# Altium footprint library alexsb.PCBLIB: 444 footprints (part 5 of 28)
Each footprint in its own frame and in the unit in brackets; x right, y up, seen from the top. Pads: shape width x height; smd on the part's side, far side on the other; paste and mask are expansions set on the pad; w line width, h text height; cw(c..) or ccw(c..) is an arc to the next point about the centre after c.
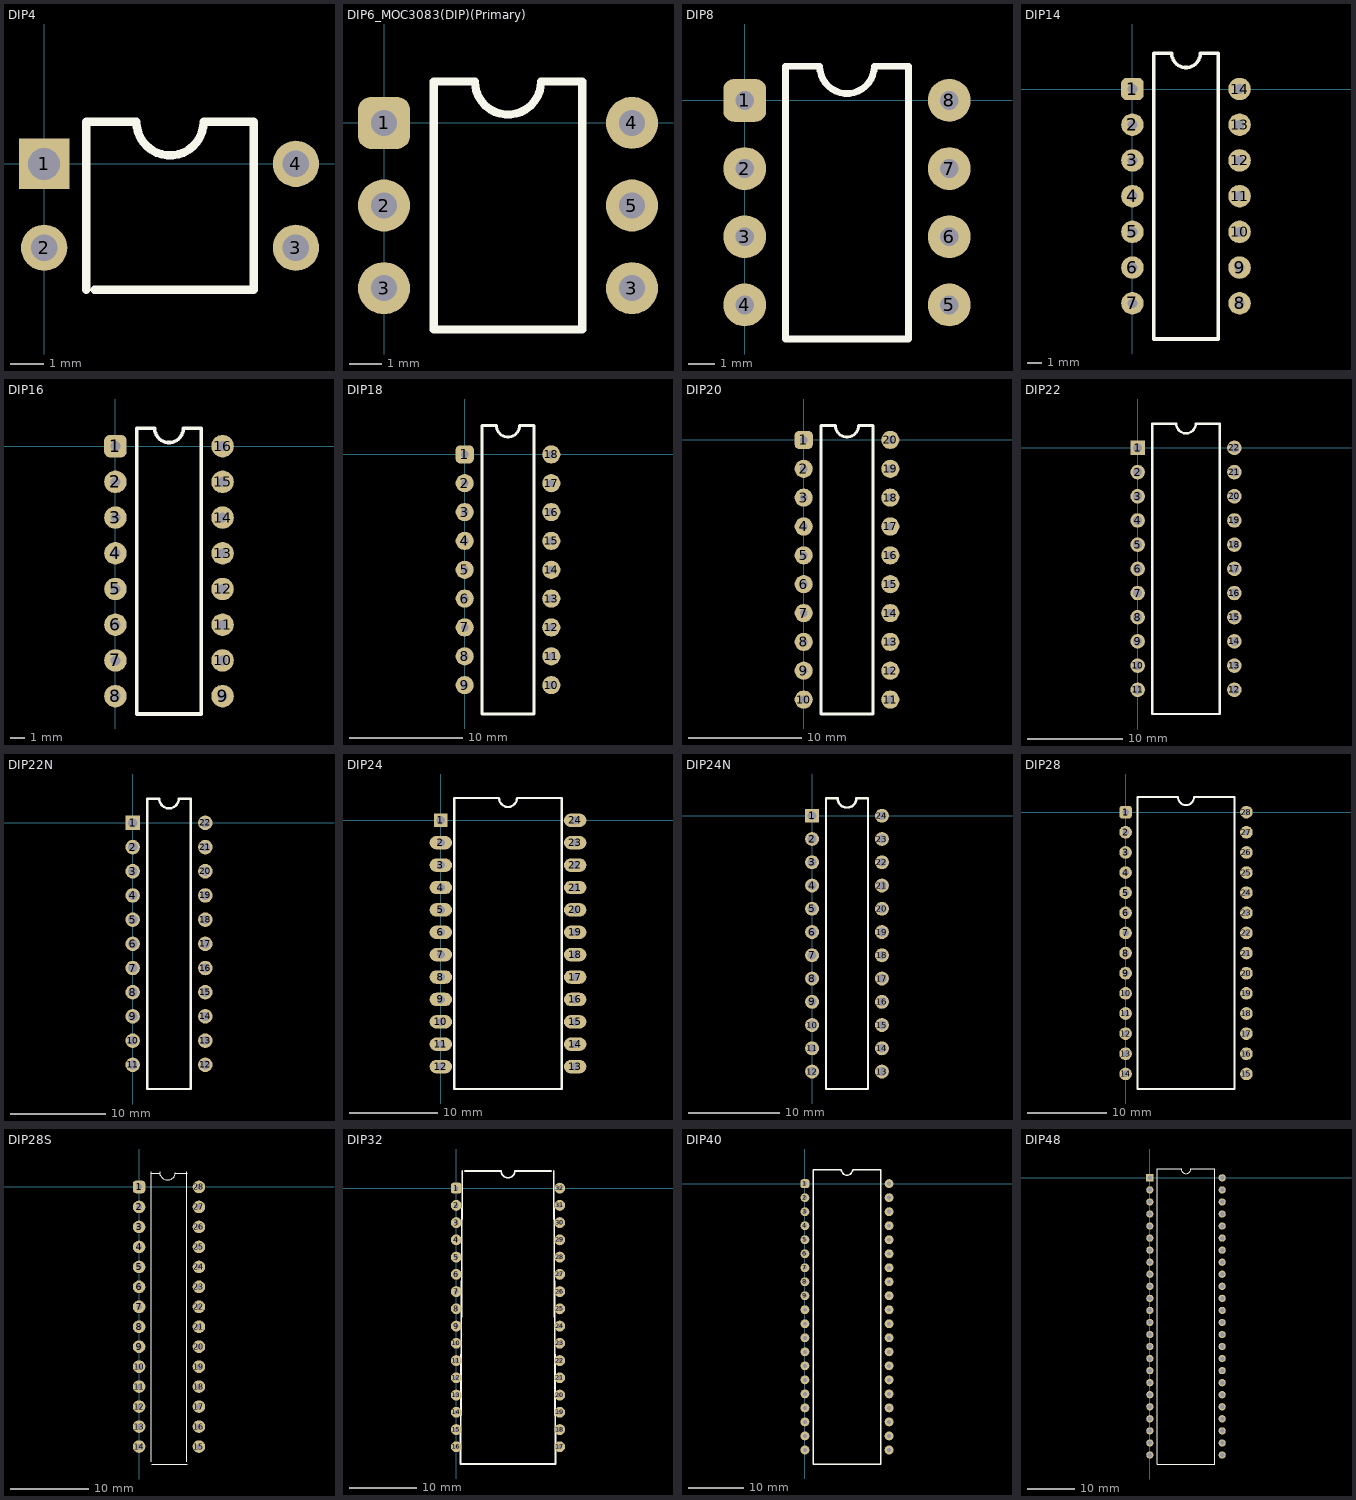
[diagram p4: the footprints below, top view; thin cyan lines are the x and y axes]

## DIP4 [mm]
pads (4):
  rect 1.524x1.524 hole 0.965: 1(0,0)
  round 1.4 hole 0.8: 2(0,-2.54) 3(7.62,-2.54) 4(7.62,0)
Top Overlay:
  lines w0.254: 1.27,-3.81 1.27,1.27 2.794,1.27 ccw(c3.81,1.27) 4.826,1.27 6.35,1.27 6.35,-3.81 1.524,-3.81

## DIP6_MOC3083(DIP)(Primary) [mm]
pads (6):
  rrect50% 1.6x1.6 hole 0.8: 1(0,0)
  round 1.6 hole 0.8: 2(0,-2.54) 3(0,-5.08) 3(7.62,-5.08) 4(7.62,0) 5(7.62,-2.54)
Top Overlay:
  lines w0.254: 1.524,-6.35 6.096,-6.35 6.096,1.27 4.826,1.27 cw(c3.81,1.27) 2.794,1.27 1.524,1.27 1.524,-6.35

## DIP8 [mm]
pads (8):
  rrect50% 1.6x1.6 hole 0.7: 1(0,0)
  round 1.6 hole 0.7: 2(0,-2.54) 3(0,-5.08) 4(0,-7.62) 5(7.62,-7.62) 6(7.62,-5.08) 7(7.62,-2.54) 8(7.62,0)
Top Overlay:
  lines w0.254: 1.524,-8.89 1.524,1.27 2.794,1.27 ccw(c3.81,1.27) 4.826,1.27 6.096,1.27 6.096,-8.89 1.524,-8.89

## DIP14 [mm]
pads (14):
  rrect50% 1.6x1.6 hole 0.7: 1(0,0)
  round 1.6 hole 0.7: 2(0,-2.54) 3(0,-5.08) 4(0,-7.62) 5(0,-10.16) 6(0,-12.7) 7(0,-15.24) 8(7.62,-15.24) 9(7.62,-12.7) 10(7.62,-10.16) 11(7.62,-7.62) 12(7.62,-5.08) 13(7.62,-2.54) 14(7.62,0)
Top Overlay:
  lines w0.254: 1.524,-17.78 1.524,2.54 2.794,2.54 ccw(c3.81,2.54) 4.826,2.54 6.096,2.54 6.096,-17.78 1.524,-17.78

## DIP16 [mm]
pads (16):
  rrect50% 1.6x1.6 hole 0.7: 1(0,0)
  round 1.6 hole 0.7: 2(0,-2.54) 3(0,-5.08) 4(0,-7.62) 5(0,-10.16) 6(0,-12.7) 7(0,-15.24) 8(0,-17.78) 9(7.62,-17.78) 10(7.62,-15.24) 11(7.62,-12.7) 12(7.62,-10.16) 13(7.62,-7.62) 14(7.62,-5.08) 15(7.62,-2.54) 16(7.62,0)
Top Overlay:
  lines w0.254: 1.524,-19.05 1.524,1.27 2.794,1.27 ccw(c3.81,1.27) 4.826,1.27 6.096,1.27 6.096,-19.05 1.524,-19.05

## DIP18 [mm]
pads (18):
  rrect50% 1.6x1.6 hole 0.7: 1(0,0)
  round 1.6 hole 0.7: 2(0,-2.54) 3(0,-5.08) 4(0,-7.62) 5(0,-10.16) 6(0,-12.7) 7(0,-15.24) 8(0,-17.78) 9(0,-20.32) 10(7.62,-20.32) 11(7.62,-17.78) 12(7.62,-15.24) 13(7.62,-12.7) 14(7.62,-10.16) 15(7.62,-7.62) 16(7.62,-5.08) 17(7.62,-2.54) 18(7.62,0)
Top Overlay:
  lines w0.254: 1.524,-22.86 1.524,2.54 2.794,2.54 ccw(c3.81,2.54) 4.826,2.54 6.096,2.54 6.096,-22.86 1.524,-22.86

## DIP20 [mm]
pads (20):
  rrect50% 1.6x1.6 hole 0.7: 1(0,0)
  round 1.6 hole 0.7: 2(0,-2.54) 3(0,-5.08) 4(0,-7.62) 5(0,-10.16) 6(0,-12.7) 7(0,-15.24) 8(0,-17.78) 9(0,-20.32) 10(0,-22.86) 11(7.62,-22.86) 12(7.62,-20.32) 13(7.62,-17.78) 14(7.62,-15.24) 15(7.62,-12.7) 16(7.62,-10.16) 17(7.62,-7.62) 18(7.62,-5.08) 19(7.62,-2.54) 20(7.62,0)
Top Overlay:
  lines w0.254: 1.524,-24.13 1.524,1.27 2.794,1.27 ccw(c3.81,1.27) 4.826,1.27 6.096,1.27 6.096,-24.13 1.524,-24.13

## DIP22 [mil]
pads (22):
  rect 60x60 hole 38: 1(0,0)
  round 60 hole 38: 2(0,-100) 3(0,-200) 4(0,-300) 5(0,-400) 6(0,-500) 7(0,-600) 8(0,-700) 9(0,-800) 10(0,-900) 11(0,-1000) 12(400,-1000) 13(400,-900) 14(400,-800) 15(400,-700) 16(400,-600) 17(400,-500) 18(400,-400) 19(400,-300) 20(400,-200) 21(400,-100) 22(400,0)
Top Overlay:
  lines w10: 60,-1100 60,100 160,100 ccw(c200,100) 240,100 340,100 340,-1100 60,-1100

## DIP22N [mil]
pads (22):
  rect 60x60 hole 38: 1(0,0)
  round 60 hole 38: 2(0,-100) 3(0,-200) 4(0,-300) 5(0,-400) 6(0,-500) 7(0,-600) 8(0,-700) 9(0,-800) 10(0,-900) 11(0,-1000) 12(300,-1000) 13(300,-900) 14(300,-800) 15(300,-700) 16(300,-600) 17(300,-500) 18(300,-400) 19(300,-300) 20(300,-200) 21(300,-100) 22(300,0)
Top Overlay:
  lines w10: 60,-1100 60,100 110,100 ccw(c150,100) 190,100 240,100 240,-1100 60,-1100

## DIP24 [mil]
pads (24):
  rect 60x60 hole 38: 1(0,0)
  oval 100x60 hole 35.43: 2(0,-100) 3(0,-200) 4(0,-300) 5(0,-400) 6(0,-500) 7(0,-600) 8(0,-700) 9(0,-800) 10(0,-900) 11(0,-1000) 12(0,-1100) 13(600,-1100) 14(600,-1000) 15(600,-900) 16(600,-800) 17(600,-700) 18(600,-600) 19(600,-500) 20(600,-400) 21(600,-300) 22(600,-200) 23(600,-100) 24(600,0)
Top Overlay:
  lines w10: 60,-1200 60,100 260,100 ccw(c300,100) 340,100 540,100 540,-1200 60,-1200

## DIP24N [mil]
pads (24):
  rect 60x60 hole 38: 1(0,0)
  round 60 hole 38: 2(0,-100) 3(0,-200) 4(0,-300) 5(0,-400) 6(0,-500) 7(0,-600) 8(0,-700) 9(0,-800) 10(0,-900) 11(0,-1000) 12(0,-1100) 13(300,-1100) 14(300,-1000) 15(300,-900) 16(300,-800) 17(300,-700) 18(300,-600) 19(300,-500) 20(300,-400) 21(300,-300) 22(300,-200) 23(300,-100) 24(300,0)
Top Overlay:
  lines w10: 60,-1175 60,75 110,75 ccw(c150,75) 190,75 240,75 240,-1175 60,-1175

## DIP28 [mm]
pads (28):
  rrect50% 1.6x1.6 hole 0.8: 1(0,0)
  round 1.6 hole 0.8: 2(0,-2.54) 3(0,-5.08) 4(0,-7.62) 5(0,-10.16) 6(0,-12.7) 7(0,-15.24) 8(0,-17.78) 9(0,-20.32) 10(0,-22.86) 11(0,-25.4) 12(0,-27.94) 13(0,-30.48) 14(0,-33.02) 15(15.24,-33.02) 16(15.24,-30.48) 17(15.24,-27.94) 18(15.24,-25.4) 19(15.24,-22.86) 20(15.24,-20.32) 21(15.24,-17.78) 22(15.24,-15.24) 23(15.24,-12.7) 24(15.24,-10.16) 25(15.24,-7.62) 26(15.24,-5.08) 27(15.24,-2.54) 28(15.24,0)
Top Overlay:
  lines w0.254: 1.524,-34.925 13.716,-34.925 13.716,1.905 8.636,1.905 cw(c7.62,1.905) 6.604,1.905 1.524,1.905 1.524,-34.925

## DIP28S [mm]
pads (28):
  rrect50% 1.6x1.6 hole 0.7: 1(0,0)
  round 1.6 hole 0.7: 2(0,-2.54) 3(0,-5.08) 4(0,-7.62) 5(0,-10.16) 6(0,-12.7) 7(0,-15.24) 8(0,-17.78) 9(0,-20.32) 10(0,-22.86) 11(0,-25.4) 12(0,-27.94) 13(0,-30.48) 14(0,-33.02) 15(7.62,-33.02) 16(7.62,-30.48) 17(7.62,-27.94) 18(7.62,-25.4) 19(7.62,-22.86) 20(7.62,-20.32) 21(7.62,-17.78) 22(7.62,-15.24) 23(7.62,-12.7) 24(7.62,-10.16) 25(7.62,-7.62) 26(7.62,-5.08) 27(7.62,-2.54) 28(7.62,0)
Top Overlay:
  lines w0.05: 1.524,-34.925 1.524,1.905 ; 1.62,-35.24 6.12,-35.24 ; 1.62,1.76 2.62,1.76 ; 4.62,1.76 6.12,1.76 ; 6.096,-34.925 6.096,1.905
  lines w0.06: 2.604,1.905 ccw(c3.62,1.905) 4.631,1.808

## DIP32 [mm]
pads (32):
  rrect50% 1.6x1.6 hole 0.7: 1(0,0)
  round 1.6 hole 0.7: 2(0,-2.54) 3(0,-5.08) 4(0,-7.62) 5(0,-10.16) 6(0,-12.7) 7(0,-15.24) 8(0,-17.78) 9(0,-20.32) 10(0,-22.86) 11(0,-25.4) 12(0,-27.94) 13(0,-30.48) 14(0,-33.02) 15(0,-35.56) 16(0,-38.1) 17(15.24,-38.1) 18(15.24,-35.56) 19(15.24,-33.02) 20(15.24,-30.48) 21(15.24,-27.94) 22(15.24,-25.4) 23(15.24,-22.86) 24(15.24,-20.32) 25(15.24,-17.78) 26(15.24,-15.24) 27(15.24,-12.7) 28(15.24,-10.16) 29(15.24,-7.62) 30(15.24,-5.08) 31(15.24,-2.54) 32(15.24,0)
Top Overlay:
  lines w0.254: 0.889,2.54 0.635,-40.64 14.605,-40.64 14.351,2.54 ; 1.27,2.54 6.604,2.54 ccw(c7.62,2.54) 8.636,2.54 13.97,2.54

## DIP40 [mm]
pads (40):
  rrect50% 1.6x1.6 hole 0.7: 1(0,0)
  round 1.6 hole 0.7: 2(0,-2.54) 3(0,-5.08) 4(0,-7.62) 5(0,-10.16) 6(0,-12.7) 7(0,-15.24) 8(0,-17.78) 9(0,-20.32) 10(0,-22.86) 11(0,-25.4) 12(0,-27.94) 13(0,-30.48) 14(0,-33.02) 15(0,-35.56) 16(0,-38.1) 17(0,-40.64) 18(0,-43.18) 19(0,-45.72) 20(0,-48.26) 21(15.24,-48.26) 22(15.24,-45.72) 23(15.24,-43.18) 24(15.24,-40.64) 25(15.24,-38.1) 26(15.24,-35.56) 27(15.24,-33.02) 28(15.24,-30.48) 29(15.24,-27.94) 30(15.24,-25.4) 31(15.24,-22.86) 32(15.24,-20.32) 33(15.24,-17.78) 34(15.24,-15.24) 35(15.24,-12.7) 36(15.24,-10.16) 37(15.24,-7.62) 38(15.24,-5.08) 39(15.24,-2.54) 40(15.24,0)
Top Overlay:
  lines w0.254: 1.524,-50.8 1.524,2.54 6.604,2.54 ccw(c7.62,2.54) 8.636,2.54 13.716,2.54 13.716,-50.8 1.524,-50.8

## DIP48 [mil]
pads (48):
  rect 60x60 hole 38: 1(0,0)
  round 60 hole 38: 2(0,-100) 3(0,-200) 4(0,-300) 5(0,-400) 6(0,-500) 7(0,-600) 8(0,-700) 9(0,-800) 10(0,-900) 11(0,-1000) 12(0,-1100) 13(0,-1200) 14(0,-1300) 15(0,-1400) 16(0,-1500) 17(0,-1600) 18(0,-1700) 19(0,-1800) 20(0,-1900) 21(0,-2000) 22(0,-2100) 23(0,-2200) 24(0,-2300) 25(600,-2300) 26(600,-2200) 27(600,-2100) 28(600,-2000) 29(600,-1900) 30(600,-1800) 31(600,-1700) 32(600,-1600) 33(600,-1500) 34(600,-1400) 35(600,-1300) 36(600,-1200) 37(600,-1100) 38(600,-1000) 39(600,-900) 40(600,-800) 41(600,-700) 42(600,-600) 43(600,-500) 44(600,-400) 45(600,-300) 46(600,-200) 47(600,-100) 48(600,0)
Top Overlay:
  lines w10: 60,-2375 60,75 260,75 ccw(c300,75) 340,75 540,75 540,-2375 60,-2375